# EAGLE library part ADS1211 (library texas)
24-Bit ANALOG-TO-DIGITAL CONVERTER Source: http://focus.ti.com/lit/ds/symlink/ads1210.pdf
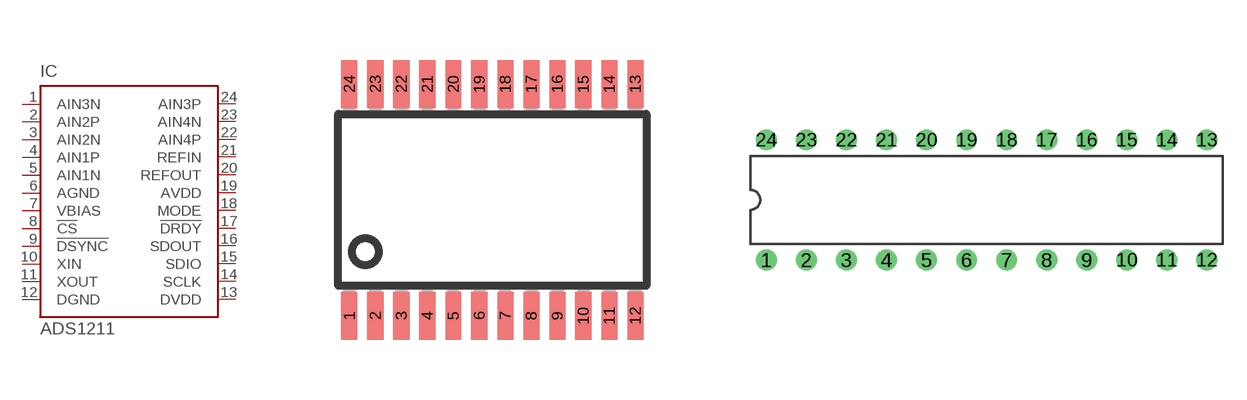
[diagram p102: symbol with the pads of PW_R-PDSO-G24; footprints PW_R-PDSO-G24, PDIP-T24]

Designator prefix IC

## ADS1211U (MF: TEXAS INSTRUMENTS; MPN: ADS1211U; OC_FARNELL: 9324070; OC_NEWARK: 35C1513)  [PW_R-PDSO-G24]
1  AIN3N  in
2  AIN2P  in
3  AIN2N  in
4  AIN1P  in
5  AIN1N  in
6  AGND  pwr
7  VBIAS  in
8  !CS  in
9  !DSYNC  in
10  XIN  in
11  XOUT  out
12  DGND  pwr
13  DVDD  pwr
14  SCLK
15  SDIO
16  SDOUT  out
17  !DRDY  in
18  MODE  in
19  AVDD  pwr
20  REFOUT  out
21  REFIN  in
22  AIN4P  in
23  AIN4N  in
24  AIN3P  in

## ADS1211P (MF: TEXAS INSTRUMENTS; MPN: ADS1211P; OC_FARNELL: 1219430; OC_NEWARK: 96K2329)  [PDIP-T24]
Pads as for PW_R-PDSO-G24

## Footprint PW_R-PDSO-G24 (pad centres in mm)
PLASTIC SMALL-OUTLINE PACKAGE SO 24 JEDEC MO-153, PW Type Source: www.ti.com/.. slvs087l.pdf
smd 0.4 x 1.2: 1 -3.575,-2.9; 2 -2.925,-2.9; 3 -2.275,-2.9; 4 -1.625,-2.9; 5 -0.975,-2.9; 6 -0.325,-2.9; 7 0.325,-2.9; 8 0.975,-2.9; 9 1.625,-2.9; 10 2.275,-2.9; 11 2.925,-2.9; 12 3.575,-2.9; 13 3.575,2.9; 14 2.925,2.9; 15 2.275,2.9; 16 1.625,2.9; 17 0.975,2.9; 18 0.325,2.9; 19 -0.325,2.9; 20 -0.975,2.9; 21 -1.625,2.9; 22 -2.275,2.9; 23 -2.925,2.9; 24 -3.575,2.9

## Footprint PDIP-T24 (pad centres in mm)
NT (R-PDIP-T24) PLASTIC DUAL-IN-LINE PACKAGE Source: http://focus.ti.com/lit/ml/mpdi004a/mpdi004a.pdf
drill 0.813 pad 1.2: 1 -13.97,-3.81; 2 -11.43,-3.81; 3 -8.89,-3.81; 4 -6.35,-3.81; 5 -3.81,-3.81; 6 -1.27,-3.81; 7 1.27,-3.81; 8 3.81,-3.81; 9 6.35,-3.81; 10 8.89,-3.81; 11 11.43,-3.81; 12 13.97,-3.81; 13 13.97,3.81; 14 11.43,3.81; 15 8.89,3.81; 16 6.35,3.81; 17 3.81,3.81; 18 1.27,3.81; 19 -1.27,3.81; 20 -3.81,3.81; 21 -6.35,3.81; 22 -8.89,3.81; 23 -11.43,3.81; 24 -13.97,3.81